# EAGLE library part SN74HC590A (library bschulz)
SN74HC590A - 8 bit binary counter with direct clear Characteristics: VCC: 2~6V Operating Temperature: -40°C to 85°C fmax = 2.5 MHz (for Vcc = 2v, high for higher Vcc) Digikey: 296-8340-5-ND (SOIC) <https://www.digikey.com/product-detail/en/texas-instruments/SN74HC590AD/296-8340-5-ND/376756> 296-1599-5-ND (DIP) <https://www.digikey.com/product-detail/en/texas-instruments/SN74HC590AN/296-1599-5-ND/277245> 1727-6923-1-ND (VQFN) <https://www.digikey.com/en/products/detail/74HC590BQ%2c115/1727-6923-1-ND/2814162?itemSeq=377216928>
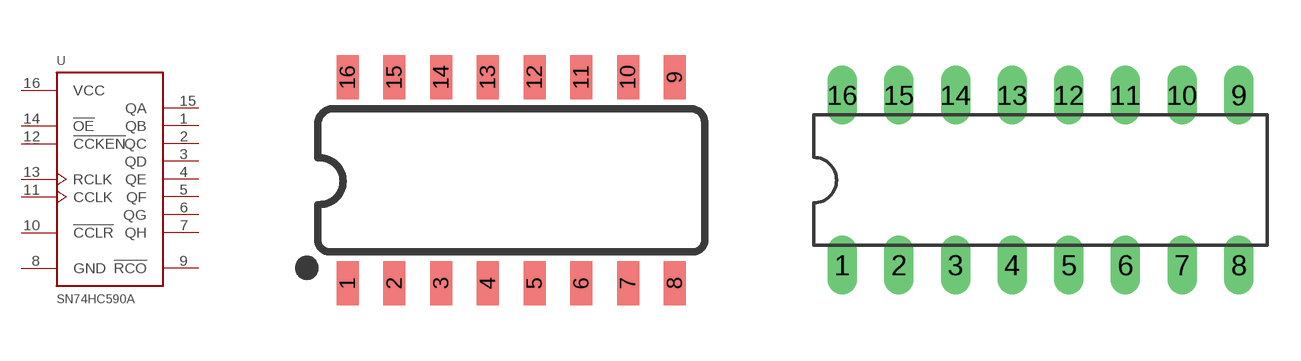
[diagram p46: symbol with the pads of SO16; footprints SO16, DIL16]

Designator prefix U

## SN74HC590AD (DIGIKEY: 296-8340-5-ND; MF: TI; MPN: SN74HC590AD)  [SO16]
1  QB  out
2  QC  out
3  QD  out
4  QE  out
5  QF  out
6  QG  out
7  QH  out
8  GND  pwr
9  !RCO  out
10  !CCLR  in
11  CCLK  in
12  !CCKEN  in
13  RCLK  in
14  !OE  in
15  QA  out
16  VCC  pwr

## SN74HC590AN (DIGIKEY: 296-1599-5-ND; MF: TI; MPN: SN74HC590AN)  [DIL16]
Pads as for SO16

## SN74HC590AVQFN (DIGIKEY: 1727-6923-1-ND; MF: Nexperia; MPN: 74HC590BQ,115)  [VQFN-16]
1  QB  out
2  QC  out
3  QD  out
4  QE  out
5  QF  out
6  QG  out
7  QH  out
8  GND  pwr
9  !RCO  out
10  !CCLR  in
11  CCLK  in
12  !CCKEN  in
13  RCLK  in
14  !OE  in
15  QA  out
16  VCC  pwr
EP  GND  pwr

## Footprint SO16 (pad centres in mm)
SOIC, 0.15 inch width
smd 0.6 x 1.2: 1 -4.445,-2.8; 2 -3.175,-2.8; 3 -1.905,-2.8; 4 -0.635,-2.8; 5 0.635,-2.8; 6 1.905,-2.8; 7 3.175,-2.8; 8 4.445,-2.8; 9 4.445,2.8; 10 3.175,2.8; 11 1.905,2.8; 12 0.635,2.8; 13 -0.635,2.8; 14 -1.905,2.8; 15 -3.175,2.8; 16 -4.445,2.8

## Footprint DIL16 (pad centres in mm)
Dual In Line Package
drill 0.813 long: 1 -8.89,-3.81; 2 -6.35,-3.81; 3 -3.81,-3.81; 4 -1.27,-3.81; 5 1.27,-3.81; 6 3.81,-3.81; 7 6.35,-3.81; 8 8.89,-3.81; 9 8.89,3.81; 10 6.35,3.81; 11 3.81,3.81; 12 1.27,3.81; 13 -1.27,3.81; 14 -3.81,3.81; 15 -6.35,3.81; 16 -8.89,3.81

## Footprint VQFN-16 (pad centres in mm)
DHVQFN, 16 Pos (SOT763-1) Datasheet <https://assets.nexperia.com/documents/package-information/SOT763-1.pdf>
smd 0.9 x 0.24: 1 -1.8,-0.25; 8 1.8,-0.25; 9 1.8,0.25; 16 -1.8,0.25
smd 0.24 x 0.9: 2 -1.25,-1.3; 3 -0.75,-1.3; 4 -0.25,-1.3; 5 0.25,-1.3; 6 0.75,-1.3; 7 1.25,-1.3; 10 1.25,1.3; 11 0.75,1.3; 12 0.25,1.3; 13 -0.25,1.3; 14 -0.75,1.3; 15 -1.25,1.3
smd 1.9 x 0.9: EP 0,0